# Altium integrated library Convertidores DC_DC.IntLib: 1 symbol
Pins are listed as number, name and electrical type; pins without a type are passive.

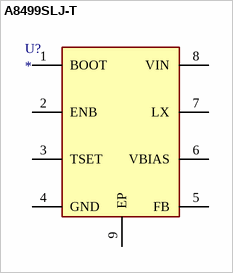
[diagram p0: symbol A8499SLJ-T]

## A8499SLJ-T
designator U?
ComponentLink1Description: datasheet; ComponentLink1URL: https://www.digikey.in/htmldatasheets/production/184991/0/0/1/a8499.html
pins: 1 BOOT, 2 ENB, 3 TSET, 4 GND, 5 FB, 6 VBIAS, 7 LX, 8 VIN, 9 EP